# Altium footprint library basic_pcb.PcbLib: 133 footprints (part 1 of 9)
Each footprint in its own frame and in the unit in brackets; x right, y up, seen from the top. Pads: shape width x height; smd on the part's side, far side on the other; paste and mask are expansions set on the pad; w line width, h text height; cw(c..) or ccw(c..) is an arc to the next point about the centre after c.
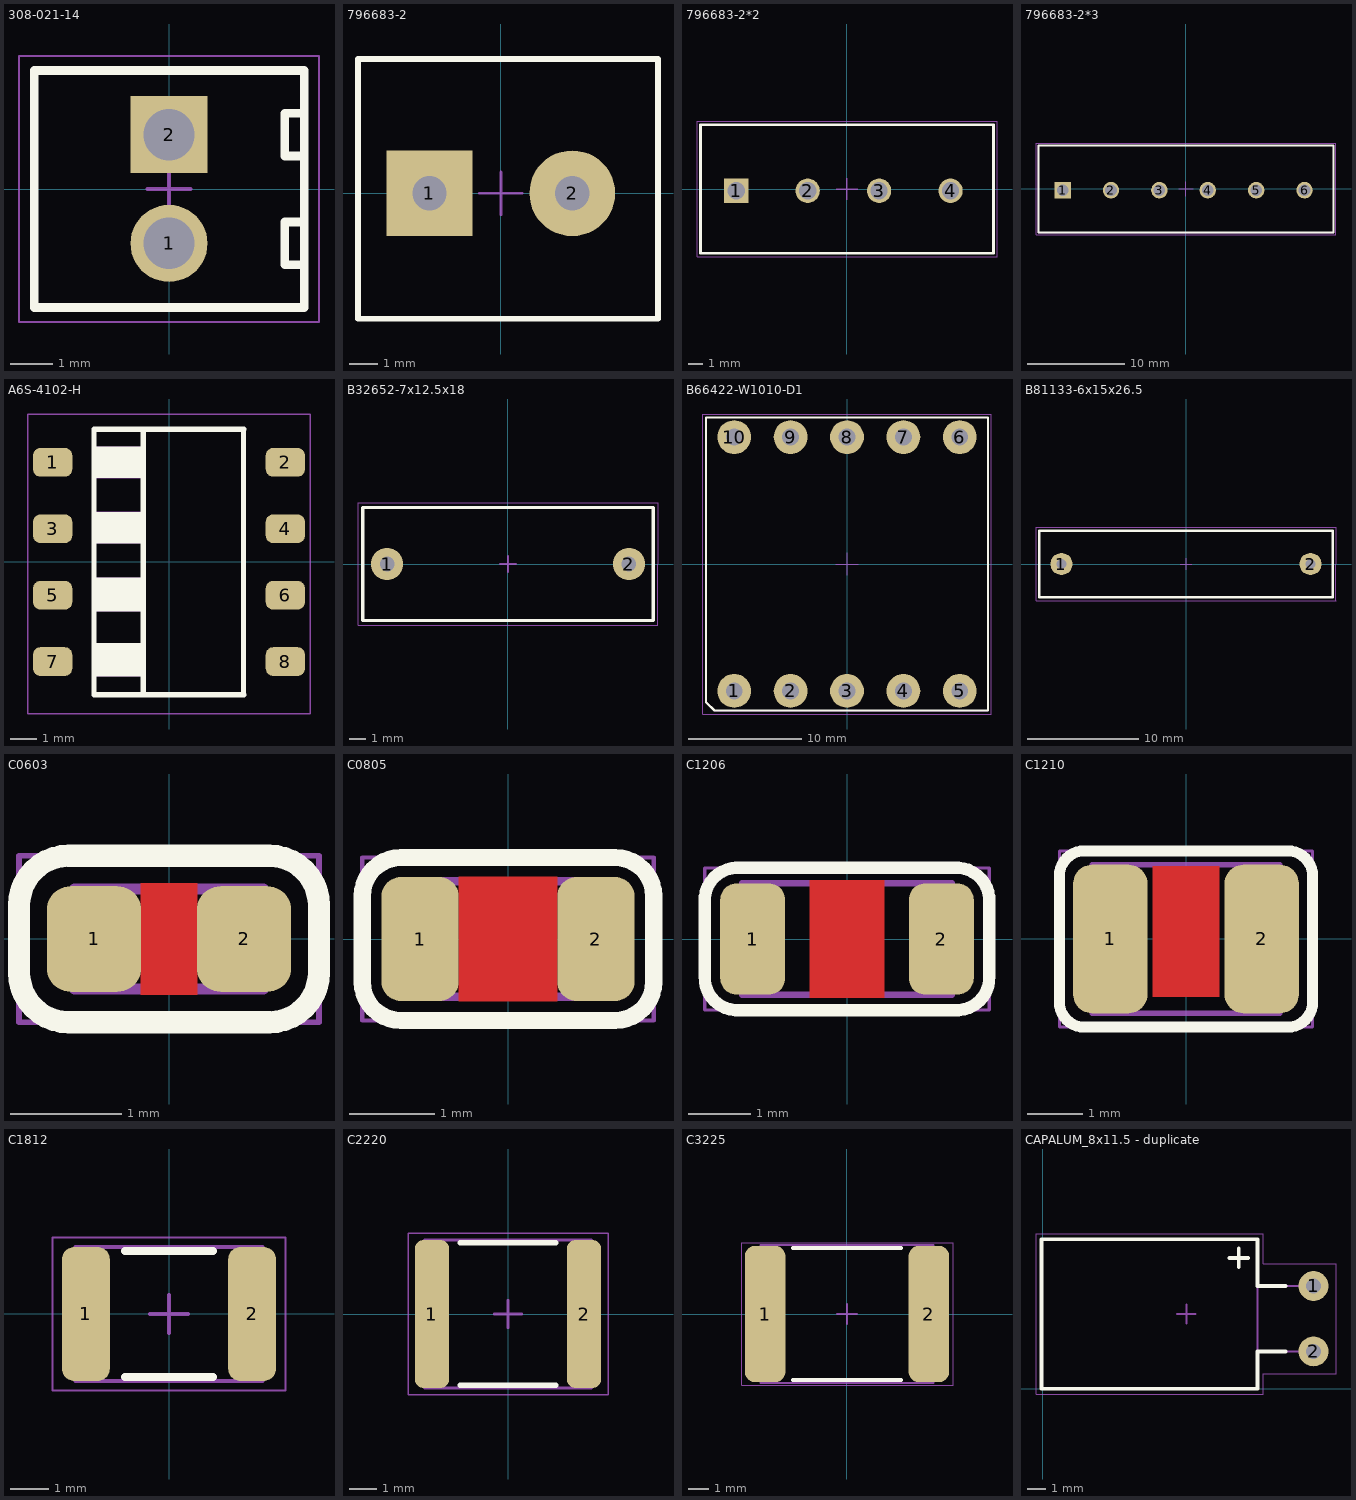
[diagram p0: the footprints below, top view; thin cyan lines are the x and y axes]

## 308-021-14 [mm]
height 8.5
pads (2):
  round 1.8 hole 1.2: 1(0,-1.27)
  rect 1.8x1.8 hole 1.2: 2(0,1.27)
Top Overlay:
  lines w0.2: 3.16,-1.77 2.7,-1.77 2.7,-0.77 3.16,-0.77 ; 3.16,0.77 2.7,0.77 2.7,1.77 3.16,1.77 ; -3.14,-2.765 -3.14,2.765 3.16,2.765 3.16,-2.765 -3.14,-2.765
Top Value:
  text ".Comment" at -1.27,-2.286 h1
Top Designator:
  text ".Designator" at -2.159,-2.286 h1
Top Component Outline:
  lines w0.1: 3.16,-1.77 2.7,-1.77 2.7,-0.77 3.16,-0.77 ; 3.16,0.77 2.7,0.77 2.7,1.77 3.16,1.77 ; -3.14,-2.765 3.16,-2.765 3.16,2.765 -3.14,2.765 -3.14,-2.765
Top Courtyard:
  lines w0.05: -3.5,-3.1 -3.5,3.1 3.5,3.1 3.5,-3.1 -3.5,-3.1
  lines w0.1: -0.5,0 0.5,0 ; 0,-0.5 0,0.5
3D body "User Library-bornier 2 voies.STEP": height 8.55, standoff -3.45, extent -3.1,-2.765 3.1,2.775

## 796683-2 [mm]
pads (2):
  rect 3x3 hole 1.2: 1(-2.5,0)
  round 3 hole 1.2: 2(2.5,0)
Top Overlay:
  lines w0.2: -5,-4.394 -5,4.7 5.5,4.7 5.5,-4.394 -5,-4.394
Top Value:
  text ".Comment" at -0.84,-3 h1
Top Designator:
  text ".Designator" at -1.15,3.27 h1
Top Component Outline:
  lines w0.1: -5,-4.4 5.5,-4.4 5.5,4.7 -5,4.7 -5,-4.4
Top Courtyard:
  lines w0.05: -5,-4.394 5.5,-4.394 5.5,4.7 -5,4.7 -5,-4.394
  lines w0.1: -0.75,0 0.75,0 ; 0,-0.75 0,0.75
3D body "Клеммник DT128V.STEP": height 15.2, standoff -3.5, extent -4.996,-4.377 5.504,4.623

## 796683-2*2 [mm]
pads (4):
  rect 1.7x1.7 hole 1.2: 1(-7.747,-0.122)
  round 1.7 hole 1.2: 2(-2.747,-0.122) 3(2.253,-0.122) 4(7.253,-0.122)
Top Overlay:
  lines w0.2: 10.258,-4.499 10.258,4.503 -10.247,4.503 -10.247,-4.497 10.258,-4.497
Top Value:
  text ".Comment" at -3.85,-2.575 h1
Top Designator:
  text ".Designator" at -3.775,1.6 h1
Top Component Outline:
  lines w0.1: 10.258,-4.497 -10.247,-4.497 -10.247,4.501 10.258,4.501
Top Courtyard:
  lines w0.05: 10.508,-4.749 -10.497,-4.749 -10.497,4.753 10.508,4.753 ; 10.508,-4.746 10.508,4.756
  lines w0.1: -0.75,0 0.75,0 ; 0,-0.75 0,0.75
3D body "Клеммник DT128V.STEP": height 15.2, standoff -3.5, extent -10.243,-4.499 0.257,4.501
3D body "Клеммник DT128V.STEP": height 15.2, standoff -3.5, extent -0.242,-4.499 10.258,4.501

## 796683-2*3 [mm]
pads (6):
  rect 1.7x1.7 hole 1.2: 1(-12.747,-0.125)
  round 1.7 hole 1.2: 2(-7.747,-0.125) 3(-2.747,-0.125) 4(2.253,-0.125) 5(7.253,-0.125) 6(12.253,-0.125)
Top Overlay:
  lines w0.2: -15.247,-4.5 -15.247,4.5 15.253,4.498 15.253,-4.502 -15.247,-4.5
Top Value:
  text ".Comment" at -3.697,-2.625 h1
Top Designator:
  text ".Designator" at -3.572,1.575 h1
Top Component Outline:
  lines w0.1: -15.247,-4.5 15.258,-4.5 15.258,4.498 -15.247,4.498 -15.247,-4.5
Top Courtyard:
  lines w0.05: -15.497,-4.752 15.503,-4.752 15.503,4.75 -15.497,4.75 -15.497,-4.752
  lines w0.1: -0.75,0 0.75,0 ; 0,-0.75 0,0.75
3D body "Клеммник DT128V.STEP": height 15.2, standoff -3.5, extent -15.243,-4.502 -4.743,4.498
3D body "Клеммник DT128V.STEP": height 15.2, standoff -3.5, extent -5.242,-4.502 5.258,4.498
3D body "Клеммник DT128V.STEP": height 15.2, standoff -3.5, extent 4.758,-4.502 15.258,4.498

## A6S-4102-H [mm]
pads (8):
  rrect50% 1.5x1.1 smd: 1(-4.45,3.81) 2(4.45,3.81) 3(-4.45,1.27) 4(4.45,1.27) 5(-4.45,-1.27) 6(4.45,-1.27) 7(-4.45,-3.81) 8(4.45,-3.81)
Top Overlay:
  lines w0.2: -2.825,-4.115 -1.01,-4.115 ; -2.825,-1.265 -1.01,-1.265 ; -2.825,4.31 -1.01,4.31 ; -2.8,-4.29 -0.985,-4.29 ; -2.8,-4.19 -0.985,-4.19 ; -2.8,-3.94 -0.985,-3.94 ; -2.8,-3.765 -0.985,-3.765 ; -2.8,-3.59 -0.985,-3.59 ; -2.8,-3.49 -0.985,-3.49 ; -2.8,-3.315 -0.985,-3.315 ; -2.8,-3.19 -0.985,-3.19 ; -2.8,-1.79 -0.985,-1.79 ; -2.8,-1.69 -0.985,-1.69 ; -2.8,-1.615 -0.985,-1.615 ; -2.8,-1.44 -0.985,-1.44 ; -2.8,-1.09 -0.985,-1.09 ; -2.8,-0.99 -0.985,-0.99 ; -2.8,-0.815 -0.985,-0.815 ; -2.8,-0.69 -0.985,-0.69 ; -2.8,0.935 -0.985,0.935 ; -2.8,1.11 -0.985,1.11 ; -2.8,1.285 -0.985,1.285 ; -2.8,1.46 -0.985,1.46 ; -2.8,1.635 -0.985,1.635 ; -2.8,3.31 -0.985,3.31 ; -2.8,3.46 -0.985,3.46 ; -2.8,3.635 -0.985,3.635 ; -2.8,3.81 -0.985,3.81 ; -2.8,3.985 -0.985,3.985 ; -2.8,4.135 -0.985,4.135 ; -0.985,-5.08 -0.985,5.08 ; 2.85,-5.08 2.85,5.08 ; 2.865,-5.08 -2.865,-5.08 -2.865,5.08 2.865,5.08 ; -2.8,0.81 -0.985,0.81 -2.8,0.81 ; -2.8,1.81 -0.985,1.81 -2.8,1.81
Top Value:
  text ".Comment" at 1.525,-1.733 h1.2
Top Designator:
  text ".Designator" at 0.791,-2.321 h1.5
Top Component Outline:
  lines w0.1: -2.85,-4.34 -1,-4.34 ; -2.85,-4.265 -1,-4.265 ; -2.85,-3.965 -1,-3.965 ; -2.85,-3.89 -1,-3.89 ; -2.85,-3.815 -1,-3.815 ; -2.85,-3.74 -1,-3.74 ; -2.85,-3.665 -1,-3.665 ; -2.85,-3.59 -1,-3.59 ; -2.85,-3.515 -1,-3.515 ; -2.85,-3.44 -1,-3.44 ; -2.85,-3.365 -1,-3.365 ; -2.85,-3.29 -1,-3.29 ; -2.85,-3.215 -1,-3.215 ; -2.85,-3.14 -1,-3.14 ; -2.85,-1.84 -1,-1.84 ; -2.85,-1.765 -1,-1.765 ; -2.85,-1.69 -1,-1.69 ; -2.85,-1.615 -1,-1.615 ; -2.85,-1.465 -1,-1.465 ; -2.85,-1.39 -1,-1.39 ; -2.85,-1.315 -1,-1.315 ; -2.85,-1.165 -1,-1.165 ; -2.85,-1.09 -1,-1.09 ; -2.85,-1.015 -1,-1.015 ; -2.85,-0.865 -1,-0.865 ; -2.85,-0.79 -1,-0.79 ; -2.85,-0.715 -1,-0.715 ; -2.85,-0.64 -1,-0.64 ; -2.85,0.76 -1,0.76 ; -2.85,0.835 -1,0.835 ; -2.85,0.91 -1,0.91 ; -2.85,1.135 -1,1.135 ; -2.85,1.21 -1,1.21 ; -2.85,1.36 -1,1.36 ; -2.85,1.435 -1,1.435 ; -2.85,1.51 -1,1.51 ; -2.85,1.66 -1,1.66 ; -2.85,1.735 -1,1.735 ; -2.85,1.81 -1,1.81 ; -2.85,1.885 -1,1.885 ; -2.85,3.235 -1,3.235 ; -2.85,3.31 -1,3.31 ; -2.85,3.385 -1,3.385 ; -2.85,3.61 -1,3.61 ; -2.85,3.685 -1,3.685 ; -2.85,3.835 -1,3.835 ; -2.85,3.91 -1,3.91 ; -2.85,3.985 -1,3.985 ; -2.85,4.135 -1,4.135 ; -2.85,4.21 -1,4.21 ; -2.85,4.285 -1,4.285 ; -2.85,4.36 -1,4.36 ; -1,-5.065 -1,5.085 ; -2.85,-5.065 -2.85,5.085 2.85,5.085 2.85,-5.065 -2.85,-5.065 ; -2.85,-4.19 -1,-4.19 -2.85,-4.19 ; -2.85,-4.115 -1,-4.115 -2.85,-4.115 ; -2.85,-4.04 -1,-4.04 -2.85,-4.04 ; -2.85,-1.54 -1,-1.54 -2.85,-1.54 ; -2.85,-1.24 -1,-1.24 -2.85,-1.24 ; -2.85,-0.94 -1,-0.94 -2.85,-0.94 ; -2.85,0.985 -1,0.985 -2.85,0.985 ; -2.85,1.06 -1,1.06 -2.85,1.06 ; -2.85,1.285 -1,1.285 -2.85,1.285 ; -2.85,1.585 -1,1.585 -2.85,1.585 ; -2.85,3.46 -1,3.46 -2.85,3.46 ; -2.85,3.535 -1,3.535 -2.85,3.535 ; -2.85,3.76 -1,3.76 -2.85,3.76 ; -2.85,4.06 -1,4.06 -2.85,4.06
Top Courtyard:
  lines w0.05: -5.4,-5.815 -5.4,5.66 5.4,5.66 5.4,-5.815 -5.4,-5.815
3D body "19717.stp": height 3.7, standoff 0, extent -4.85,-5.64 4.95,5.46

## B32652-7x12.5x18 [mm] "Êîíäåíñàòîð êåðàìè÷åñêèé"
height 18
pads (2):
  round 2 hole 0.9: 1(-7.5,0) 2(7.5,0)
Top Overlay:
  lines w0.2: -9,-3.5 -9,3.5 9,3.5 9,-3.5 -9,-3.5
Top Value:
  text ".Comment" at -1.722,-1.474 h1.2
Top Designator:
  text ".Designator" at -2.578,0.865 h1.5
Top Component Outline:
  lines w0.1: -9,-3.5 -9,3.5 9,3.5 9,-3.5 -9,-3.5
Top Courtyard:
  lines w0.05: -9.3,-3.8 -9.3,3.8 9.3,3.8 9.3,-3.8 -9.3,-3.8
  lines w0.1: -0.5,0 0.5,0 ; 0,-0.5 0,0.5
3D body: height 15, standoff 0, extent -9,-3.5 9,3.5

## B66422-W1010-D1 [mm]
pads (10):
  round 3 hole 1.5: 1(-10,-11.25) 2(-5,-11.25) 3(0,-11.25) 4(5,-11.25) 5(10,-11.25) 6(10,11.25) 7(5,11.25) 8(0,11.25) 9(-5,11.25) 10(-10,11.25)
Top Overlay:
  lines w0.2: -12.5,-12.25 -11.75,-13 12.5,-13 12.5,13 -12.5,13 -12.5,-12.25
Top Value:
  text ".Comment" at -1.722,-1.474 h1.2
Top Designator:
  text ".Designator" at -2.578,0.865 h1.5
Top Component Outline:
  lines w0.1: -12.5,-12.25 -11.75,-13 12.5,-13 12.5,0 12.5,13 -12.5,13 -12.5,0 -12.5,-12.25
Top Courtyard:
  lines w0.05: -12.8,-13.3 -12.8,13.3 12.8,13.3 12.8,-13.3 -12.8,-13.3
  lines w0.1: -1,0 1,0 ; 0,-1 0,-0.5 0,1
3D body "EDF_25_13_9.STEP": height 13.06, standoff -3.34, extent -12.5,-13 12.5,13

## B81133-6x15x26.5 [mm] "Êîíäåíñàòîð X òèïà"
height 16
pads (2):
  round 2 hole 0.9: 1(-11.25,0) 2(11.25,0)
Top Overlay:
  lines w0.2: -13.25,-3 -13.25,3 13.25,3 13.25,-3 -13.25,-3
Top Value:
  text ".Comment" at -1.722,-1.474 h1.2
Top Designator:
  text ".Designator" at -2.578,0.865 h1.5
Top Component Outline:
  lines w0.1: -13.25,-3 13.25,-3 13.25,3 -13.25,3 -13.25,-3
Top Courtyard:
  lines w0.05: -13.55,-3.3 -13.55,3.3 13.55,3.3 13.55,-3.3 -13.55,-3.3
  lines w0.1: -0.5,0 0.5,0 ; 0,-0.5 0,0.5
3D body: height 15, standoff 0, extent -13.25,-3 13.25,3

## C0603 [mm] "Chip Capacitor, 2-Leads, Body 1,60x0,80mm, IPC Medium Density"
height 0.9
pads (2):
  rrect50% 0.85x0.95 smd: 1(-0.675,0) 2(0.675,0)
Top Layer:
  pour cut-out: -0.254,0.5 -0.254,-0.5 0.254,-0.5 0.254,0.5
Top Overlay:
  lines w0.2: -0.9,-0.75 0.9,-0.75 ccw(c0.9,-0.3) 1.35,-0.3 1.35,0.3 ccw(c0.9,0.3) 0.9,0.75 ; -0.9,-0.75 cw(c-0.9,-0.3) -1.35,-0.3 -1.35,0.3 cw(c-0.9,0.3) -0.9,0.75 0.9,0.75
Top Value:
  text ".Comment" at 1.578,-0.874 h1.2
Top Designator:
  text ".Designator" at 1.522,0.165 h1.5
Top Component Outline:
  lines w0.1: -0.85,-0.45 0.85,-0.45 0.85,0.45 -0.85,0.45 -0.85,-0.45
Top Courtyard:
  lines w0.05: -1.35,-0.75 -1.35,0.75 1.35,0.75 1.35,-0.75 -1.35,-0.75
  lines w0.1: -0.45,0 0.45,0 ; 0,-0.45 0,0.45
3D body: height 0.9, standoff 0, extent 0.5,-0.45 0.85,0.45
3D body: height 0.9, standoff 0, extent -0.85,-0.45 -0.5,0.45
3D body: height 0.9, standoff 0, extent -0.5,-0.45 0.5,0.45

## C0805 [mm] "Chip Capacitor, 2-Leads, Body 2,00x1,25mm, IPC Medium Density"
height 1.35
pads (2):
  rrect50% 0.9x1.45 smd: 1(-1.025,0) 2(1.025,0)
Top Layer:
  pour cut-out: -0.575,0.725 -0.575,-0.725 0.575,-0.725 0.575,0.725
Top Overlay:
  lines w0.2: -1.7,-0.5 ccw(c-1.25,-0.5) -1.25,-0.95 ; -1.7,-0.492 -1.7,0.492 ; -1.7,0.5 cw(c-1.25,0.5) -1.25,0.95 ; -1.242,-0.95 1.242,-0.95 ; -1.242,0.95 1.242,0.95 ; 1.25,-0.95 ccw(c1.25,-0.5) 1.7,-0.5 ; 1.25,0.95 cw(c1.25,0.5) 1.7,0.5 ; 1.7,-0.492 1.7,0.492
Top Value:
  text ".Comment" at 1.978,-0.874 h1.2
Top Designator:
  text ".Designator" at 1.922,0.165 h1.5
Top Component Outline:
  lines w0.1: -1.05,-0.675 1.05,-0.675 1.05,0.675 -1.05,0.675 -1.05,-0.675
Top Courtyard:
  lines w0.05: -1.7,-0.95 -1.7,0.95 1.7,0.95 1.7,-0.95 -1.7,-0.95
  lines w0.1: -0.5,0 0.5,0 ; 0,-0.5 0,0.5
3D body: height 1.35, standoff 0, extent 0.6,-0.675 1.05,0.675
3D body: height 1.35, standoff 0, extent -1.05,-0.675 -0.6,0.675
3D body: height 1.35, standoff 0, extent -0.6,-0.675 0.6,0.675

## C1206 [mm] "Chip Capacitor, 2-Leads, Body 3,20x1,60mm, IPC Medium Density"
height 2.4
pads (2):
  rrect50% 1.05x1.8 smd: 1(-1.525,0) 2(1.525,0)
Top Layer:
  pour cut-out: -0.6,0.95 -0.6,-0.95 0.6,-0.95 0.6,0.95
Top Overlay:
  lines w0.2: -1.8,1.15 1.8,1.15 cw(c1.775,0.625) 2.3,0.6 2.3,-0.6 cw(c1.775,-0.625) 1.8,-1.15 -1.8,-1.15 cw(c-1.775,-0.625) -2.3,-0.6 -2.3,0.6 cw(c-1.775,0.625) -1.775,1.151
Top Value:
  text ".Comment" at 2.578,-0.874 h1.2
Top Designator:
  text ".Designator" at 2.522,0.265 h1.5
Top Component Outline:
  lines w0.1: -1.7,-0.9 1.7,-0.9 1.7,0.9 -1.7,0.9 -1.7,-0.9
Top Courtyard:
  lines w0.05: -2.3,-1.15 2.3,-1.15 2.3,1.15 -2.3,1.15 -2.3,-1.15
  lines w0.1: -0.5,0 0.5,0 ; 0,-0.5 0,0.5
3D body "User Library-Chip Cap_MLCC_1206 (3216)_D.step": height 1.25, standoff 0, extent -1.6,-0.8 1.6,0.8

## C1210 [mm] "Chip Capacitor, 2-Leads, Body 3,20x2,50mm, IPC Medium Density"
height 2.7
pads (2):
  rrect50% 1.35x2.7 smd: 1(-1.375,0) 2(1.375,0)
Top Layer:
  pour cut-out: -0.6,1.325 -0.6,-1.05 0.6,-1.05 0.6,1.325
Top Overlay:
  lines w0.2: -2.3,-1.15 ccw(c-1.85,-1.15) -1.85,-1.6 1.85,-1.6 ccw(c1.85,-1.15) 2.3,-1.15 2.3,1.15 ccw(c1.85,1.15) 1.85,1.6 -1.85,1.6 ccw(c-1.85,1.15) -2.3,1.15 -2.3,-1.15
Top Value:
  text ".Comment" at 2.678,-0.774 h1.2
Top Designator:
  text ".Designator" at 2.622,0.365 h1.5
Top Component Outline:
  lines w0.1: -1.7,-1.35 -1.7,1.35 1.7,1.35 1.7,-1.35 -1.7,-1.35
Top Courtyard:
  lines w0.05: -2.3,-1.6 2.3,-1.6 2.3,1.6 -2.3,1.6 -2.3,-1.6
  lines w0.1: -0.5,0 0.5,0 ; 0,-0.5 0,0.5
3D body: height 2.7, standoff 0, extent -1.15,-1.35 1.15,1.35
3D body: height 2.7, standoff 0, extent -1.7,-1.35 -1.15,1.35
3D body: height 2.7, standoff 0, extent 1.15,-1.35 1.7,1.35

## C1812 [mm] "Chip Capacitor, 2-Leads, Body 4,50x3,20mm, IPC Medium Density"
height 2
pads (2):
  rrect50% 1.25x3.5 smd: 1(-2.175,0) 2(2.175,0)
Top Overlay:
  lines w0.2: -1.15,-1.65 1.15,-1.65 ; -1.15,1.65 1.15,1.65
Top Value:
  text ".Comment" at 3.278,-0.374 h1.2
Top Designator:
  text ".Designator" at 3.222,0.765 h1.5
Top Component Outline:
  lines w0.1: -2.45,-1.75 -2.45,1.75 2.45,1.75 2.45,-1.75 -2.45,-1.75
Top Courtyard:
  lines w0.05: -3.05,-2 -3.05,2 3.05,2 3.05,-2 -3.05,-2
  lines w0.1: -0.5,0 0.5,0 ; 0,-0.5 0,0.5
3D body: height 2, standoff 0, extent -2.05,-1.75 2.05,1.75
3D body: height 2, standoff 0, extent -2.45,-1.75 -2.05,1.75
3D body: height 2, standoff 0, extent 2.05,-1.75 2.45,1.75

## C2220 [mm] "Chip Capacitor, 2-Leads, Body 5,70x5,00mm, IPC Medium Density"
height 2
pads (2):
  rrect50% 1.25x5.4 smd: 1(-2.775,0) 2(2.775,0)
Top Overlay:
  lines w0.2: -1.75,-2.6 1.75,-2.6 ; -1.75,2.6 1.75,2.6
Top Value:
  text ".Comment" at -1.407,-5.074 h1.2
Top Designator:
  text ".Designator" at -1.408,-4.035 h1.5
Top Component Outline:
  lines w0.1: -3.05,-2.7 3.05,-2.7 3.05,2.7 -3.05,2.7 -3.05,-2.7
Top Courtyard:
  lines w0.05: -3.65,-2.95 3.65,-2.95 3.65,2.95 -3.65,2.95 -3.65,-2.95
  lines w0.1: -0.5,0 0.5,0 ; 0,-0.5 0,0.5
3D body: height 2, standoff 0, extent 2.65,-2.7 3.05,2.7
3D body: height 2, standoff 0, extent -3.05,-2.7 -2.65,2.7
3D body: height 2, standoff 0, extent -2.65,-2.7 2.65,2.7

## C3225 [mm] "Chip Capacitor, 2-Leads, Body 8,00x6,30mm, IPC High Density"
height 3.2
pads (2):
  rrect50% 2x6.7 smd: 1(-4.025,0) 2(4.025,0)
Top Overlay:
  lines w0.2: -2.65,-3.25 2.65,-3.25 ; -2.65,3.25 2.65,3.25
Top Value:
  text ".Comment" at -1.722,-1.474 h1.2
Top Designator:
  text ".Designator" at -2.578,0.865 h1.5
Top Component Outline:
  lines w0.1: -4.25,-3.4 -4.25,3.4 4.25,3.4 4.25,-3.4 -4.25,-3.4
Top Courtyard:
  lines w0.05: -5.175,-3.5 -5.175,3.5 5.225,3.5 5.225,-3.5 -5.175,-3.5
  lines w0.1: -0.5,0 0.5,0 ; 0,-0.5 0,0.5
3D body: height 3.2, standoff 0, extent -3.75,-3.4 3.75,3.4
3D body: height 3.2, standoff 0, extent -4.25,-3.4 -3.75,3.4
3D body: height 3.2, standoff 0, extent 3.75,-3.4 4.25,3.4

## CAPALUM_8x11.5 - duplicate [mm] "Ýëåêòðîëèòè÷åñêèé àëþìèíèåâûé êîíäåíñàòîð ñ ðàäèàëüíûìè âûâîäàìè 8*11.5ìì"
height 8
pads (2):
  round 1.6 hole 0.8: 1(14.5,5.5) 2(14.5,2)
Top Overlay:
  lines w0.2: 10,7 11,7 ; 10.5,6.5 10.5,7.5 ; 13,2 11.5,2 11.5,1 11.5,0 -0.05,0 -0.05,8 11.5,8 11.5,7 11.5,5.5 13,5.5
Top Value:
  text ".Comment" at 5.978,2.526 h1.2
Top Designator:
  text ".Designator" at 5.122,4.865 h1.5
Top Component Outline:
  lines w0.1: 11.5,2 14.5,2 ; 11.5,5.5 14.5,5.5 ; -0.025,0 11.5,0 11.5,8 -0.025,8 -0.025,0
Top Courtyard:
  lines w0.05: -0.35,-0.3 11.8,-0.3 11.8,0.8 15.7,0.8 15.7,6.7 11.8,6.7 11.8,8.3 -0.35,8.3 -0.35,-0.3
  lines w0.1: 7.2,4 8.2,4 ; 7.7,3.5 7.7,4.5
3D body: height 4.3, standoff 3.7, extent 11.5,1.7 14.5,2.3
3D body: height 4.3, standoff 3.7, extent 11.5,5.201 14.5,5.8
3D body: height 4.3, standoff 3.7, extent 14.2,1.7 14.8,2.3
3D body: height 4.3, standoff 3.7, extent 14.198,5.2 14.798,5.8
3D body: height 4, standoff -4, extent 14.202,1.701 14.8,2.3
3D body: height 4, standoff -4, extent 14.2,5.201 14.798,5.8
3D body: height 8, standoff 0, extent -0.075,0.05 11.425,8.05